# EAGLE library part XRJK*4 (library con-xmultiple)
RJ11 Connector without LED, 6 position, 4 contacts, thrue hole Source: XRJK-S-01-6-4-0-9M2(01).pdf
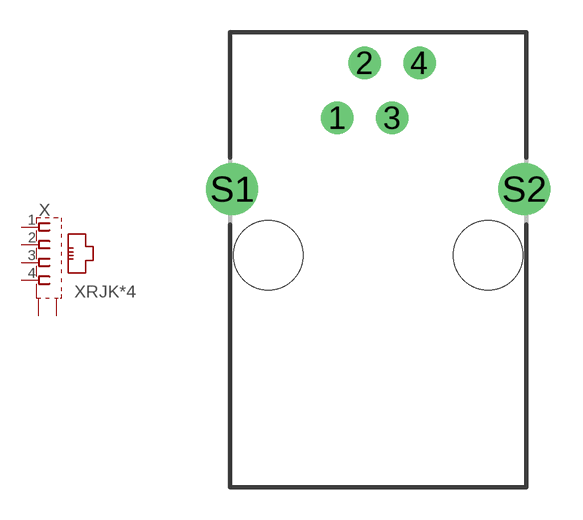
[diagram p1: symbol with the pads of XRJK-S-01-6-4-0-9M2; footprint XRJK-S-01-6-4-0-9M2]

Designator prefix X

## XRJK-S-01-6-4-0-9M2  [XRJK-S-01-6-4-0-9M2]
1  1  pas
2  2  pas
3  3  pas
4  4  pas
S1  S  pas
S2  S  pas

## Footprint XRJK-S-01-6-4-0-9M2 (pad centres in mm)
RJ11 Connector without LED, 6 position, 4 contacts, shielded, thrue hole Source: XRJK-S-01-6-4-0-9M2(01).pdf
drill 0.9 pad 1.5 round: 1 -1.905,6.35; 2 -0.635,8.89; 3 0.635,6.35; 4 1.905,8.89
drill 1.6 pad 2.184 round: S1 -6.75,3.05; S2 6.75,3.05
hole 3.2 at -5.08,0
hole 3.2 at 5.08,0